# Altium schematic symbol library Connectors.SchLib: 48 symbols
Pins are listed as number, name and electrical type; pins without a type are passive.

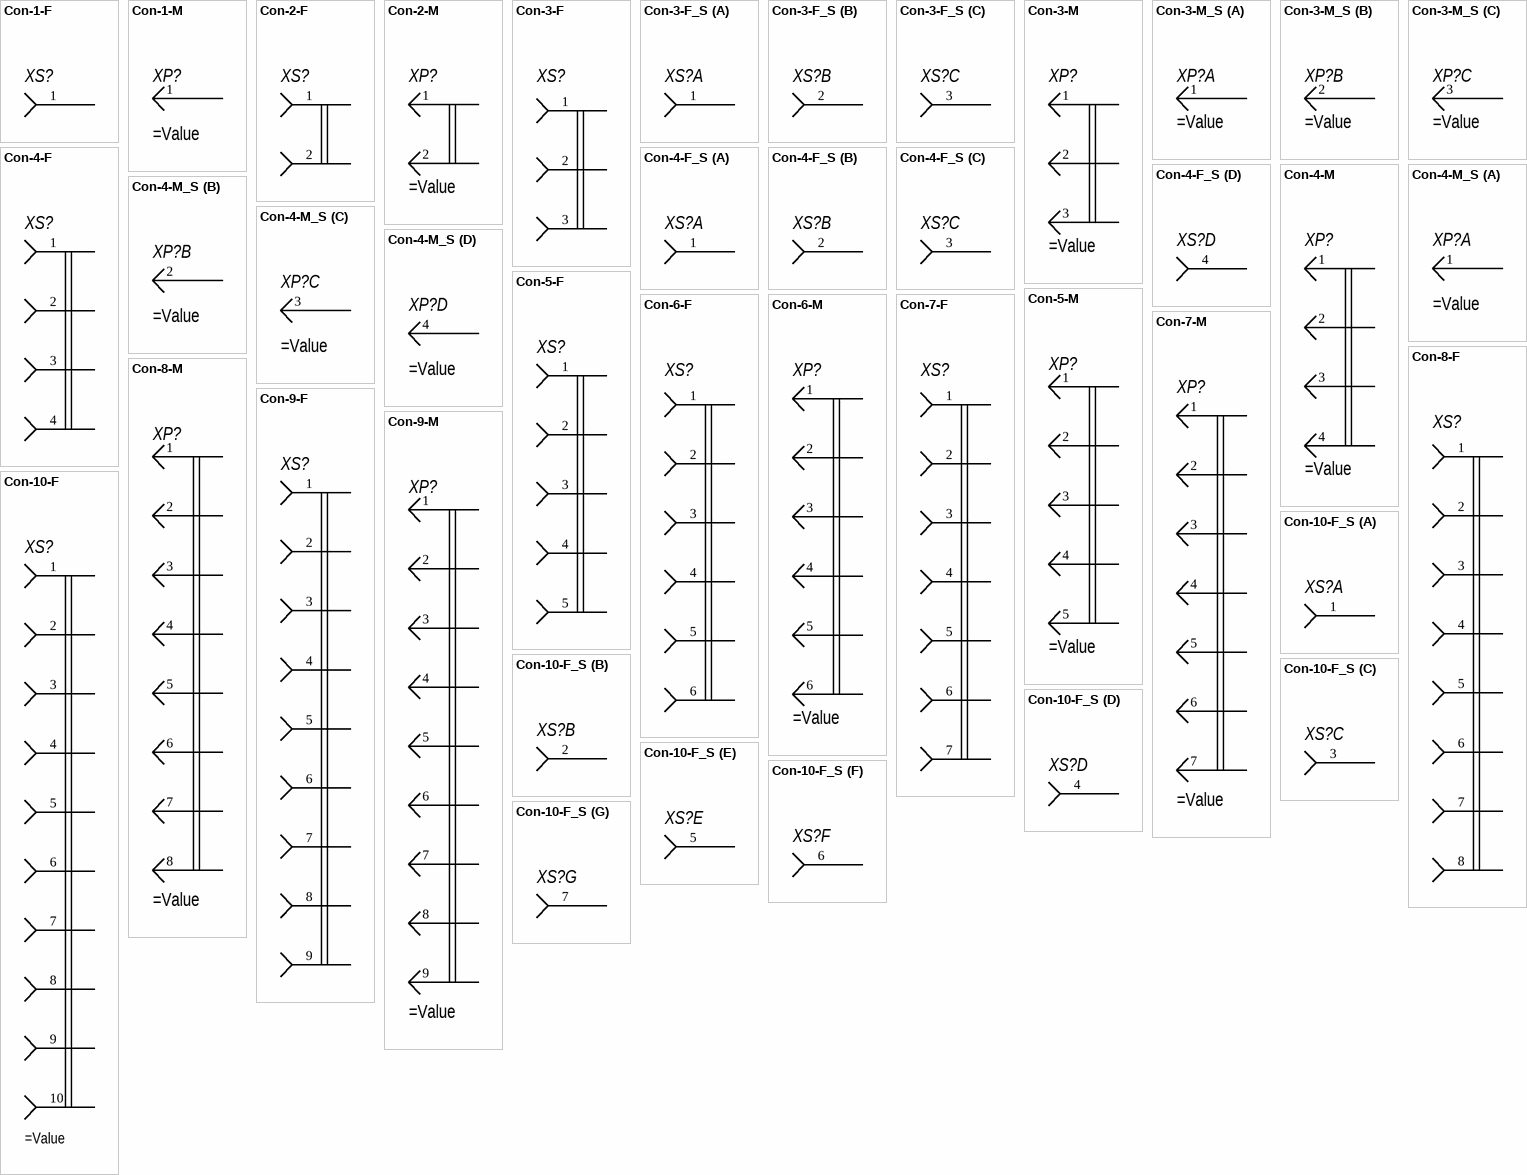
[diagram p0: symbols Con-1-F to Con-10-F_S]

## Con-1-F
designator XS?  (value not drawn)
pins: 1

## Con-1-M
designator XP?
pins: 1

## Con-2-F
designator XS?  (value not drawn)
pins: 1, 2

## Con-2-M
designator XP?
pins: 1, 2

## Con-3-F
designator XS?
pins: 1, 2, 3

## Con-3-F_S
designator XS?  (value not drawn)
part A pins: 1
part B pins: 2
part C pins: 3

## Con-3-M
designator XP?
pins: 1, 2, 3

## Con-3-M_S
designator XP?
part A pins: 1
part B pins: 2
part C pins: 3

## Con-4-F
designator XS?
pins: 1, 2, 3, 4

## Con-4-F_S
designator XS?  (value not drawn)
part A pins: 1
part B pins: 2
part C pins: 3
part D pins: 4

## Con-4-M
designator XP?
pins: 1, 2, 3, 4

## Con-4-M_S
designator XP?
part A pins: 1
part B pins: 2
part C pins: 3
part D pins: 4

## Con-5-F
designator XS?
pins: 1, 2, 3, 4, 5

## Con-5-M
designator XP?
pins: 1, 2, 3, 4, 5

## Con-6-F
designator XS?
pins: 1, 2, 3, 4, 5, 6

## Con-6-M
designator XP?
pins: 1, 2, 3, 4, 5, 6

## Con-7-F
designator XS?
pins: 1, 2, 3, 4, 5, 6, 7

## Con-7-M
designator XP?
pins: 1, 2, 3, 4, 5, 6, 7

## Con-8-F
designator XS?
pins: 1, 2, 3, 4, 5, 6, 7, 8

## Con-8-M
designator XP?
pins: 1, 2, 3, 4, 5, 6, 7, 8

## Con-9-F
designator XS?
pins: 1, 2, 3, 4, 5, 6, 7, 8, 9

## Con-9-M
designator XP?
pins: 1, 2, 3, 4, 5, 6, 7, 8, 9

## Con-10-F
designator XS?
pins: 1, 2, 3, 4, 5, 6, 7, 8, 9, 10

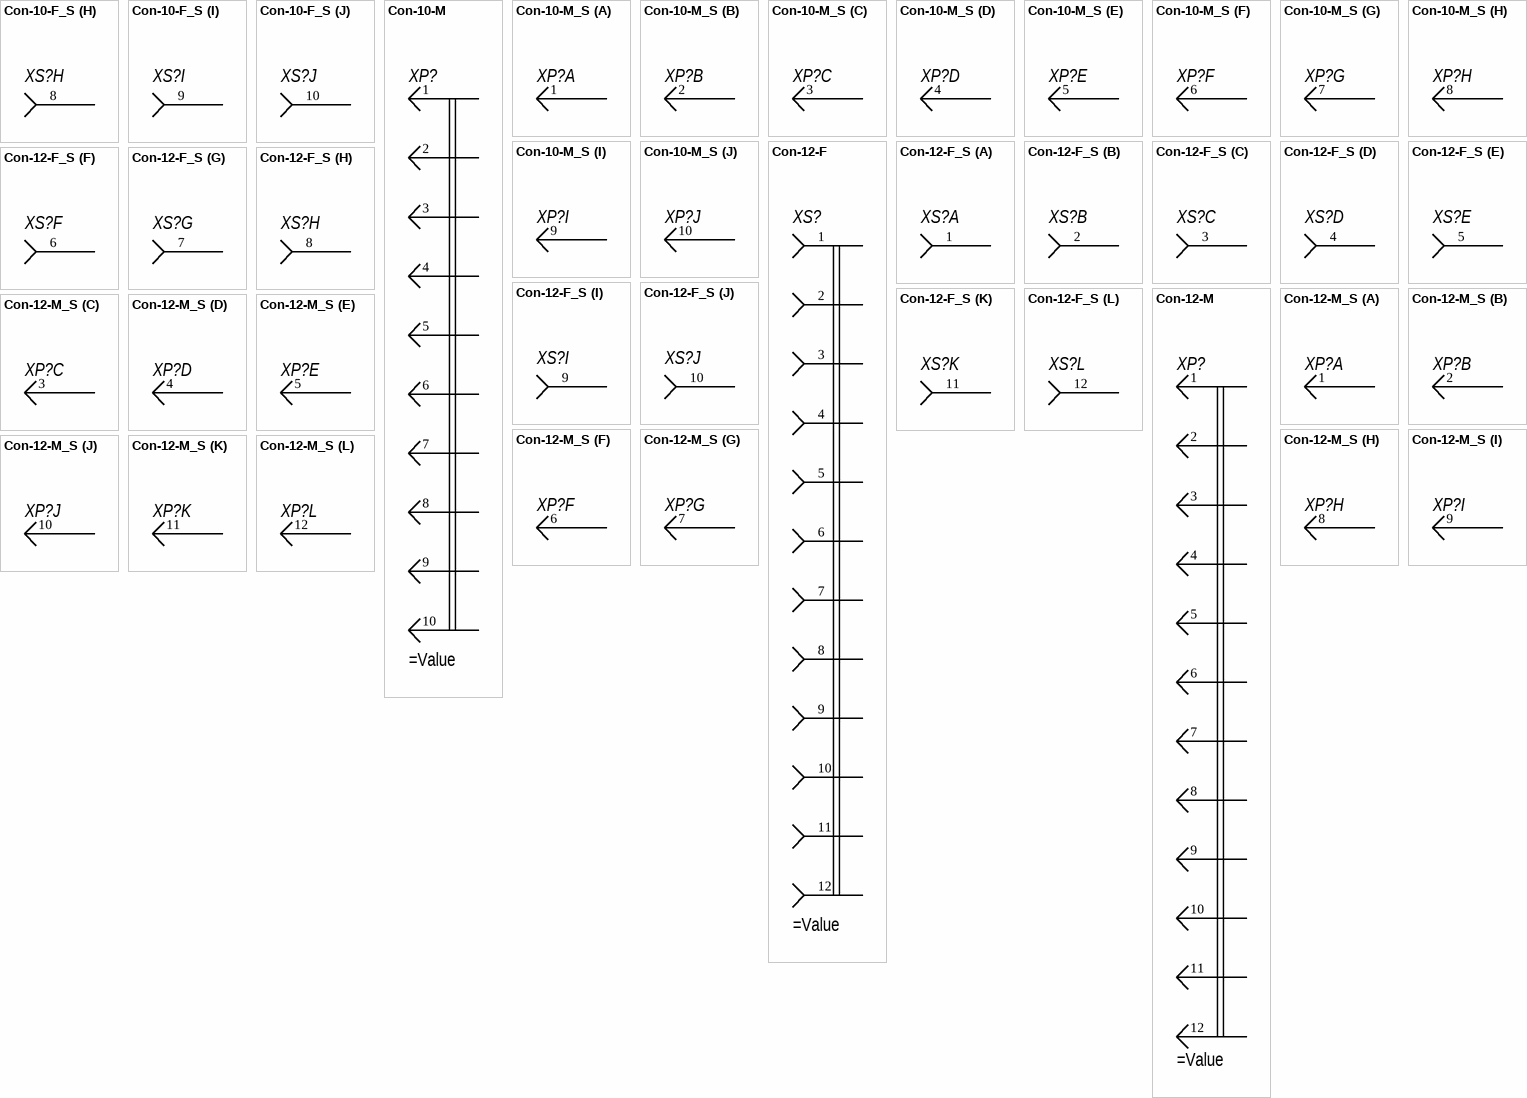
[diagram p1: symbols Con-10-F_S to Con-12-M_S]

## Con-10-F_S
designator XS?  (value not drawn)
part A pins: 1
part B pins: 2
part C pins: 3
part D pins: 4
part E pins: 5
part F pins: 6
part G pins: 7
part H pins: 8
part I pins: 9
part J pins: 10

## Con-10-M
designator XP?
pins: 1, 2, 3, 4, 5, 6, 7, 8, 9, 10

## Con-10-M_S
designator XP?
part A pins: 1
part B pins: 2
part C pins: 3
part D pins: 4
part E pins: 5
part F pins: 6
part G pins: 7
part H pins: 8
part I pins: 9
part J pins: 10

## Con-12-F
designator XS?
pins: 1, 2, 3, 4, 5, 6, 7, 8, 9, 10, 11, 12

## Con-12-F_S
designator XS?  (value not drawn)
part A pins: 1
part B pins: 2
part C pins: 3
part D pins: 4
part E pins: 5
part F pins: 6
part G pins: 7
part H pins: 8
part I pins: 9
part J pins: 10
part K pins: 11
part L pins: 12

## Con-12-M
designator XP?
pins: 1, 2, 3, 4, 5, 6, 7, 8, 9, 10, 11, 12

## Con-12-M_S
designator XP?
part A pins: 1
part B pins: 2
part C pins: 3
part D pins: 4
part E pins: 5
part F pins: 6
part G pins: 7
part H pins: 8
part I pins: 9
part J pins: 10
part K pins: 11
part L pins: 12

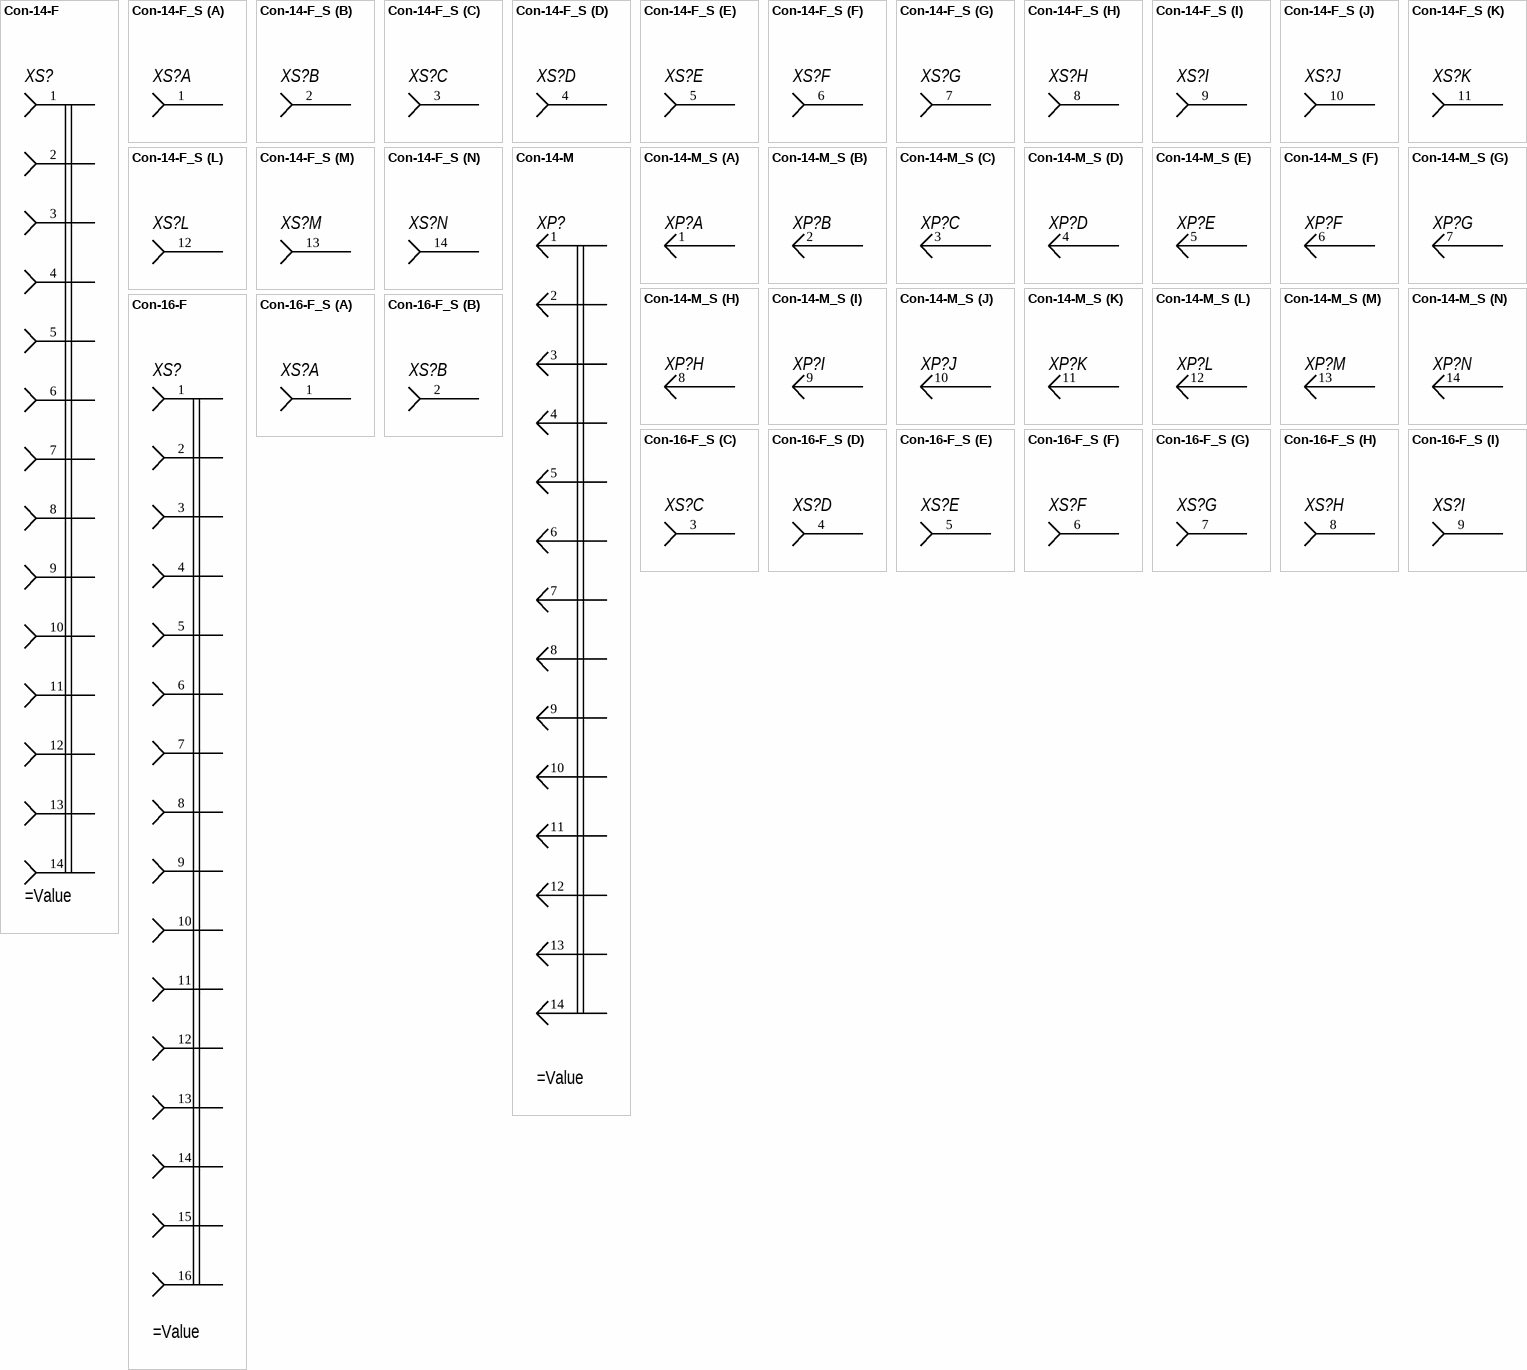
[diagram p2: symbols Con-14-F to Con-16-F_S]

## Con-14-F
designator XS?
pins: 1, 2, 3, 4, 5, 6, 7, 8, 9, 10, 11, 12, 13, 14

## Con-14-F_S
designator XS?  (value not drawn)
part A pins: 1
part B pins: 2
part C pins: 3
part D pins: 4
part E pins: 5
part F pins: 6
part G pins: 7
part H pins: 8
part I pins: 9
part J pins: 10
part K pins: 11
part L pins: 12
part M pins: 13
part N pins: 14

## Con-14-M
designator XP?
pins: 1, 2, 3, 4, 5, 6, 7, 8, 9, 10, 11, 12, 13, 14

## Con-14-M_S
designator XP?
part A pins: 1
part B pins: 2
part C pins: 3
part D pins: 4
part E pins: 5
part F pins: 6
part G pins: 7
part H pins: 8
part I pins: 9
part J pins: 10
part K pins: 11
part L pins: 12
part M pins: 13
part N pins: 14

## Con-16-F
designator XS?
pins: 1, 2, 3, 4, 5, 6, 7, 8, 9, 10, 11, 12, 13, 14, 15, 16

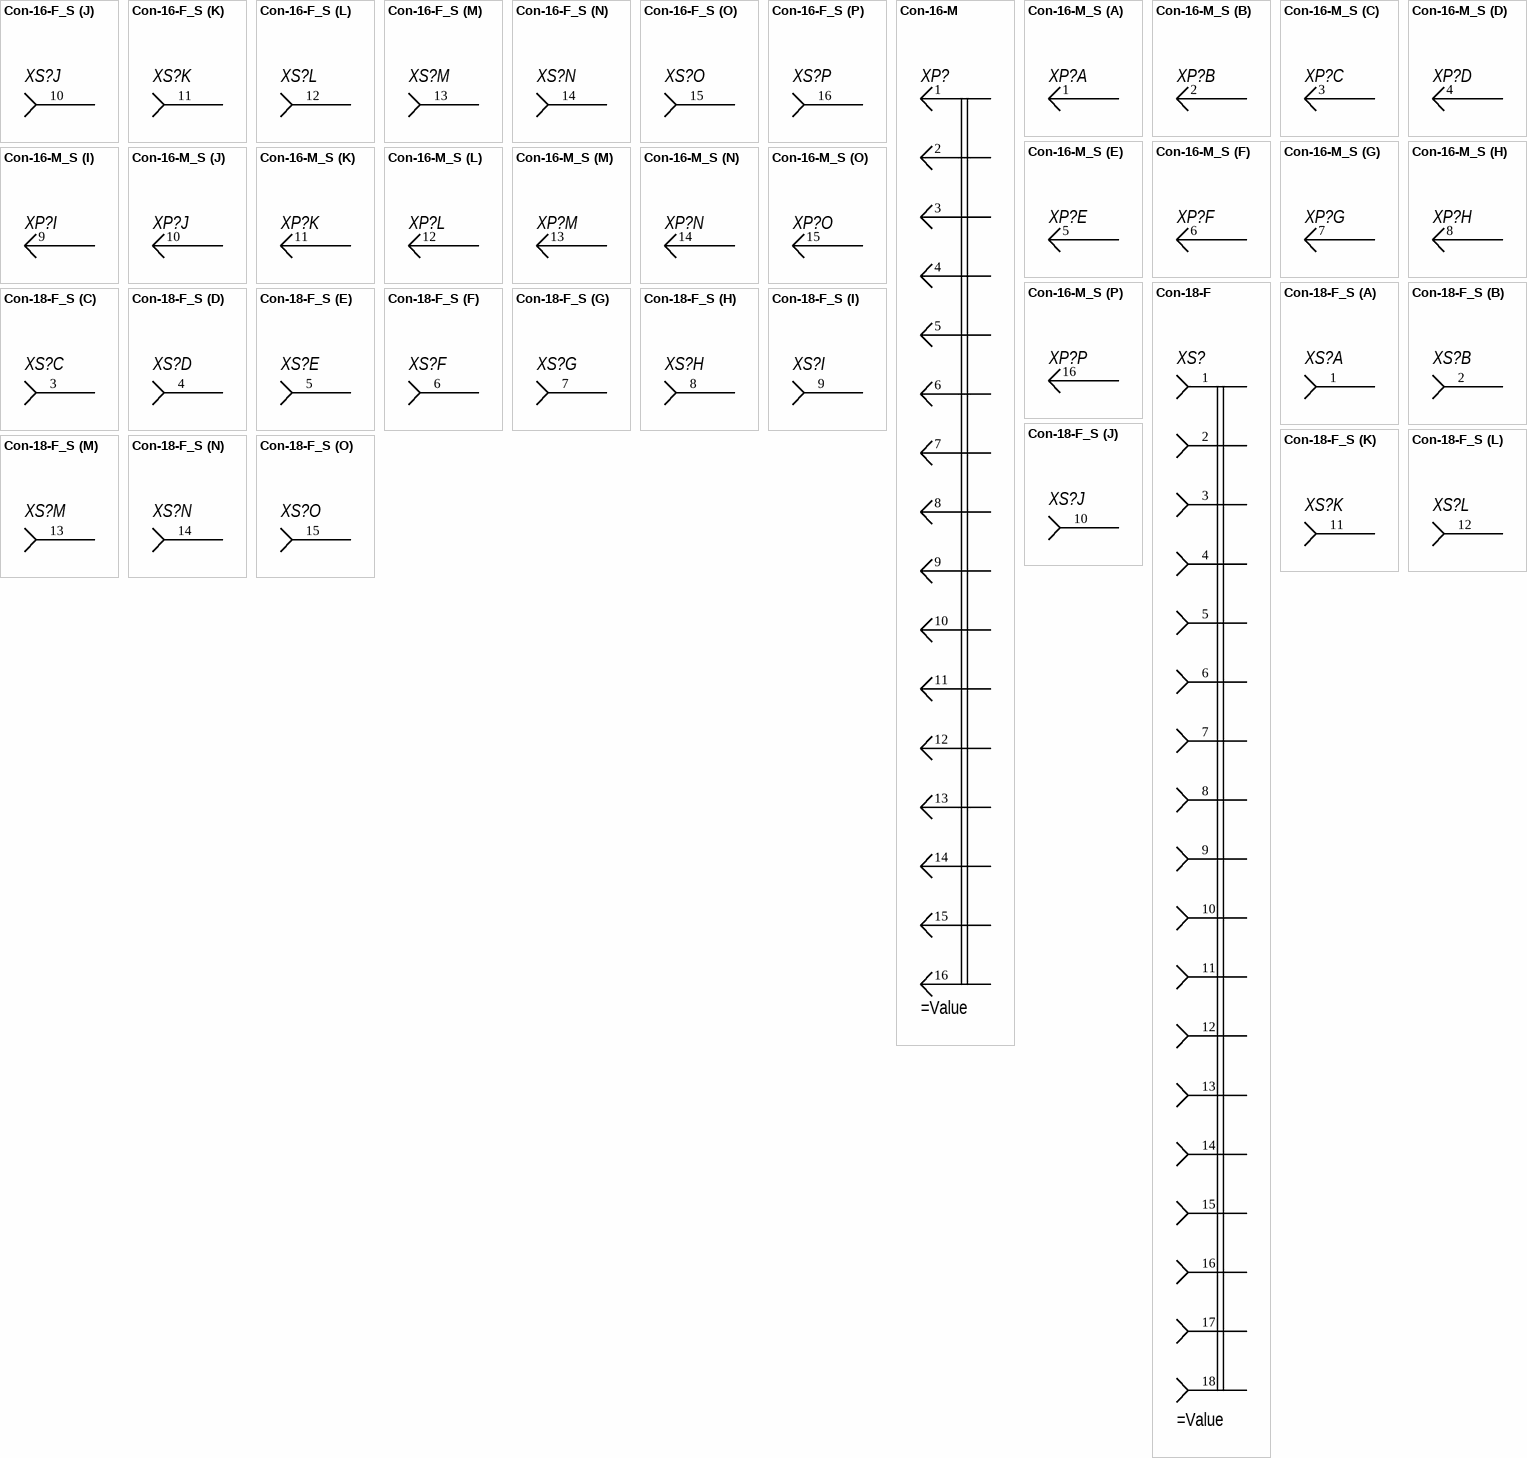
[diagram p3: symbols Con-16-F_S to Con-18-F_S]

## Con-16-F_S
designator XS?  (value not drawn)
part A pins: 1
part B pins: 2
part C pins: 3
part D pins: 4
part E pins: 5
part F pins: 6
part G pins: 7
part H pins: 8
part I pins: 9
part J pins: 10
part K pins: 11
part L pins: 12
part M pins: 13
part N pins: 14
part O pins: 15
part P pins: 16

## Con-16-M
designator XP?
pins: 1, 2, 3, 4, 5, 6, 7, 8, 9, 10, 11, 12, 13, 14, 15, 16

## Con-16-M_S
designator XP?
part A pins: 1
part B pins: 2
part C pins: 3
part D pins: 4
part E pins: 5
part F pins: 6
part G pins: 7
part H pins: 8
part I pins: 9
part J pins: 10
part K pins: 11
part L pins: 12
part M pins: 13
part N pins: 14
part O pins: 15
part P pins: 16

## Con-18-F
designator XS?
pins: 1, 2, 3, 4, 5, 6, 7, 8, 9, 10, 11, 12, 13, 14, 15, 16, 17, 18

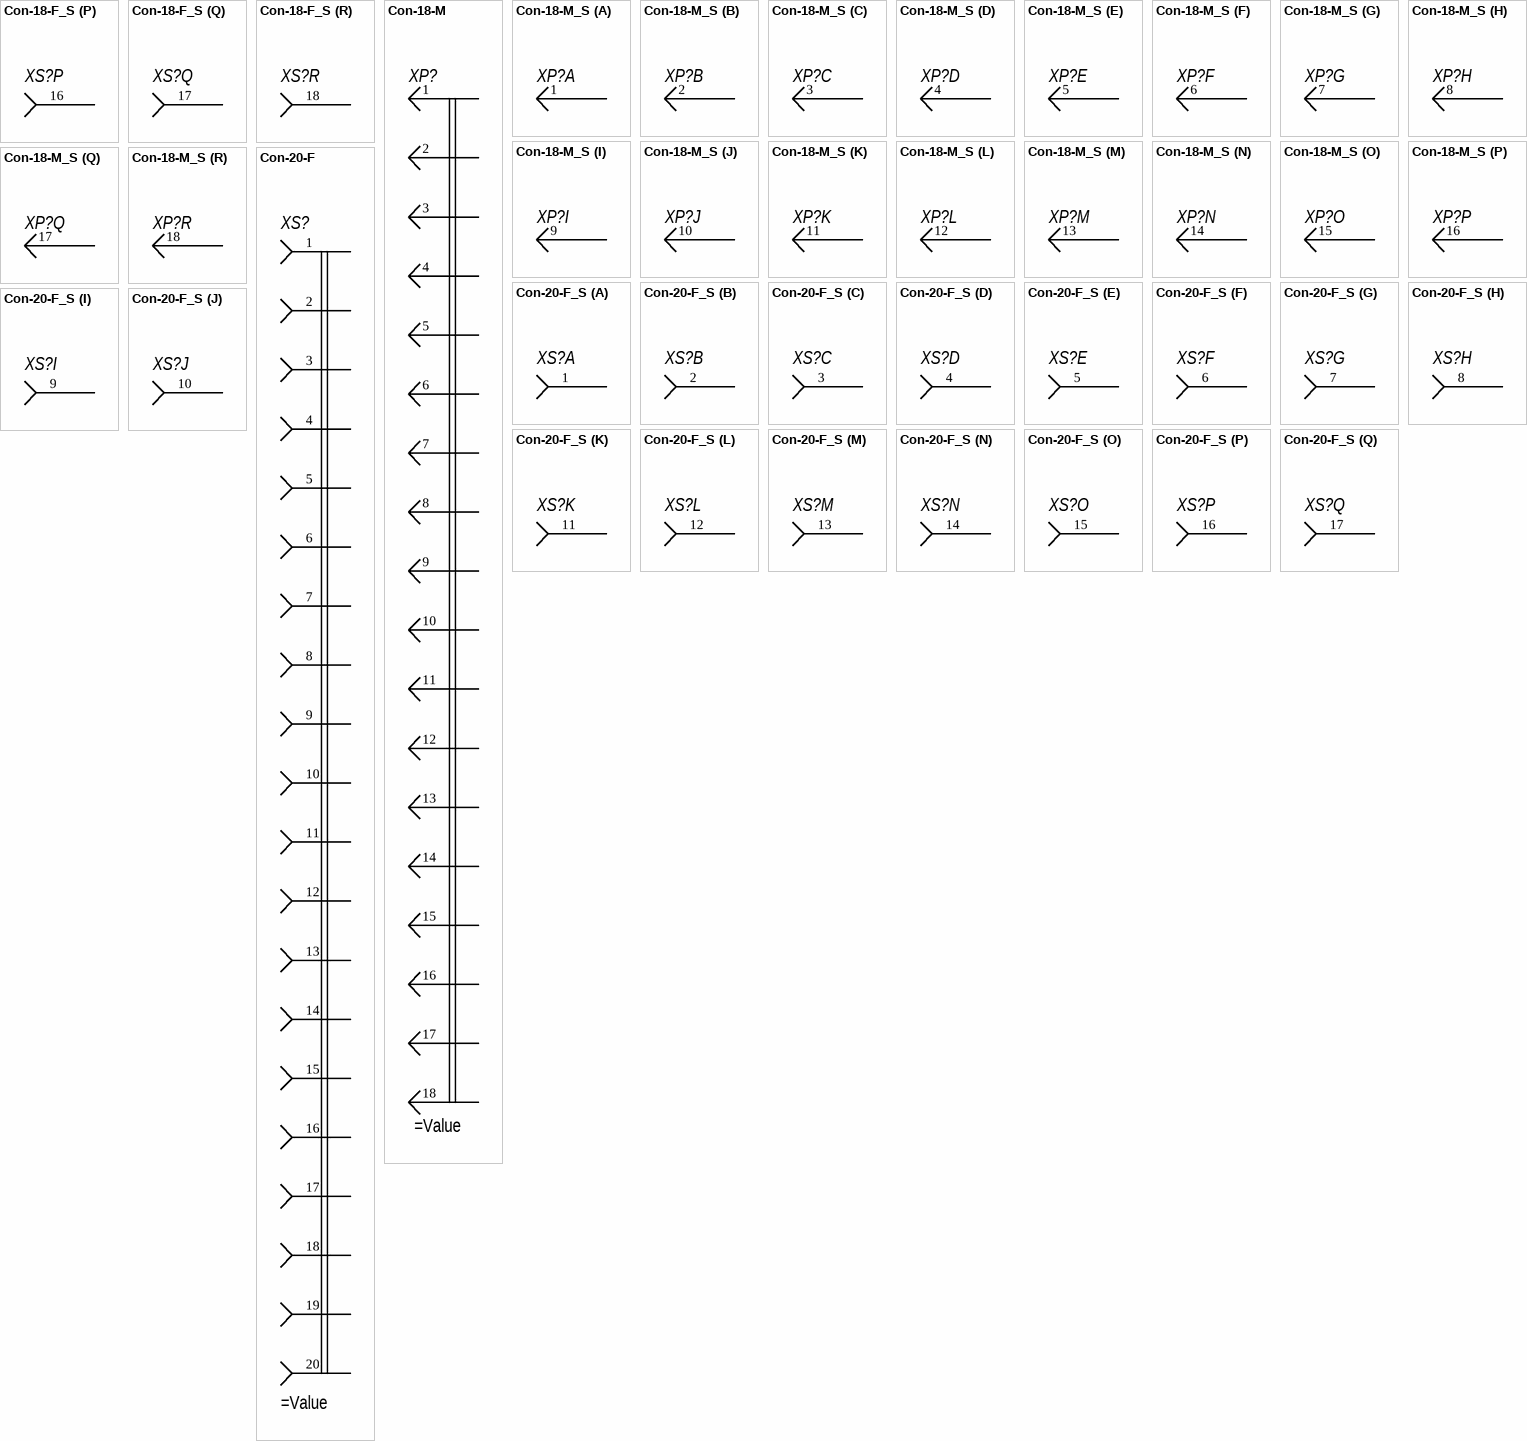
[diagram p4: symbols Con-18-F_S to Con-20-F_S]

## Con-18-F_S
designator XS?  (value not drawn)
part A pins: 1
part B pins: 2
part C pins: 3
part D pins: 4
part E pins: 5
part F pins: 6
part G pins: 7
part H pins: 8
part I pins: 9
part J pins: 10
part K pins: 11
part L pins: 12
part M pins: 13
part N pins: 14
part O pins: 15
part P pins: 16
part Q pins: 17
part R pins: 18

## Con-18-M
designator XP?
pins: 1, 2, 3, 4, 5, 6, 7, 8, 9, 10, 11, 12, 13, 14, 15, 16, 17, 18

## Con-18-M_S
designator XP?
part A pins: 1
part B pins: 2
part C pins: 3
part D pins: 4
part E pins: 5
part F pins: 6
part G pins: 7
part H pins: 8
part I pins: 9
part J pins: 10
part K pins: 11
part L pins: 12
part M pins: 13
part N pins: 14
part O pins: 15
part P pins: 16
part Q pins: 17
part R pins: 18

## Con-20-F
designator XS?
pins: 1, 2, 3, 4, 5, 6, 7, 8, 9, 10, 11, 12, 13, 14, 15, 16, 17, 18, 19, 20

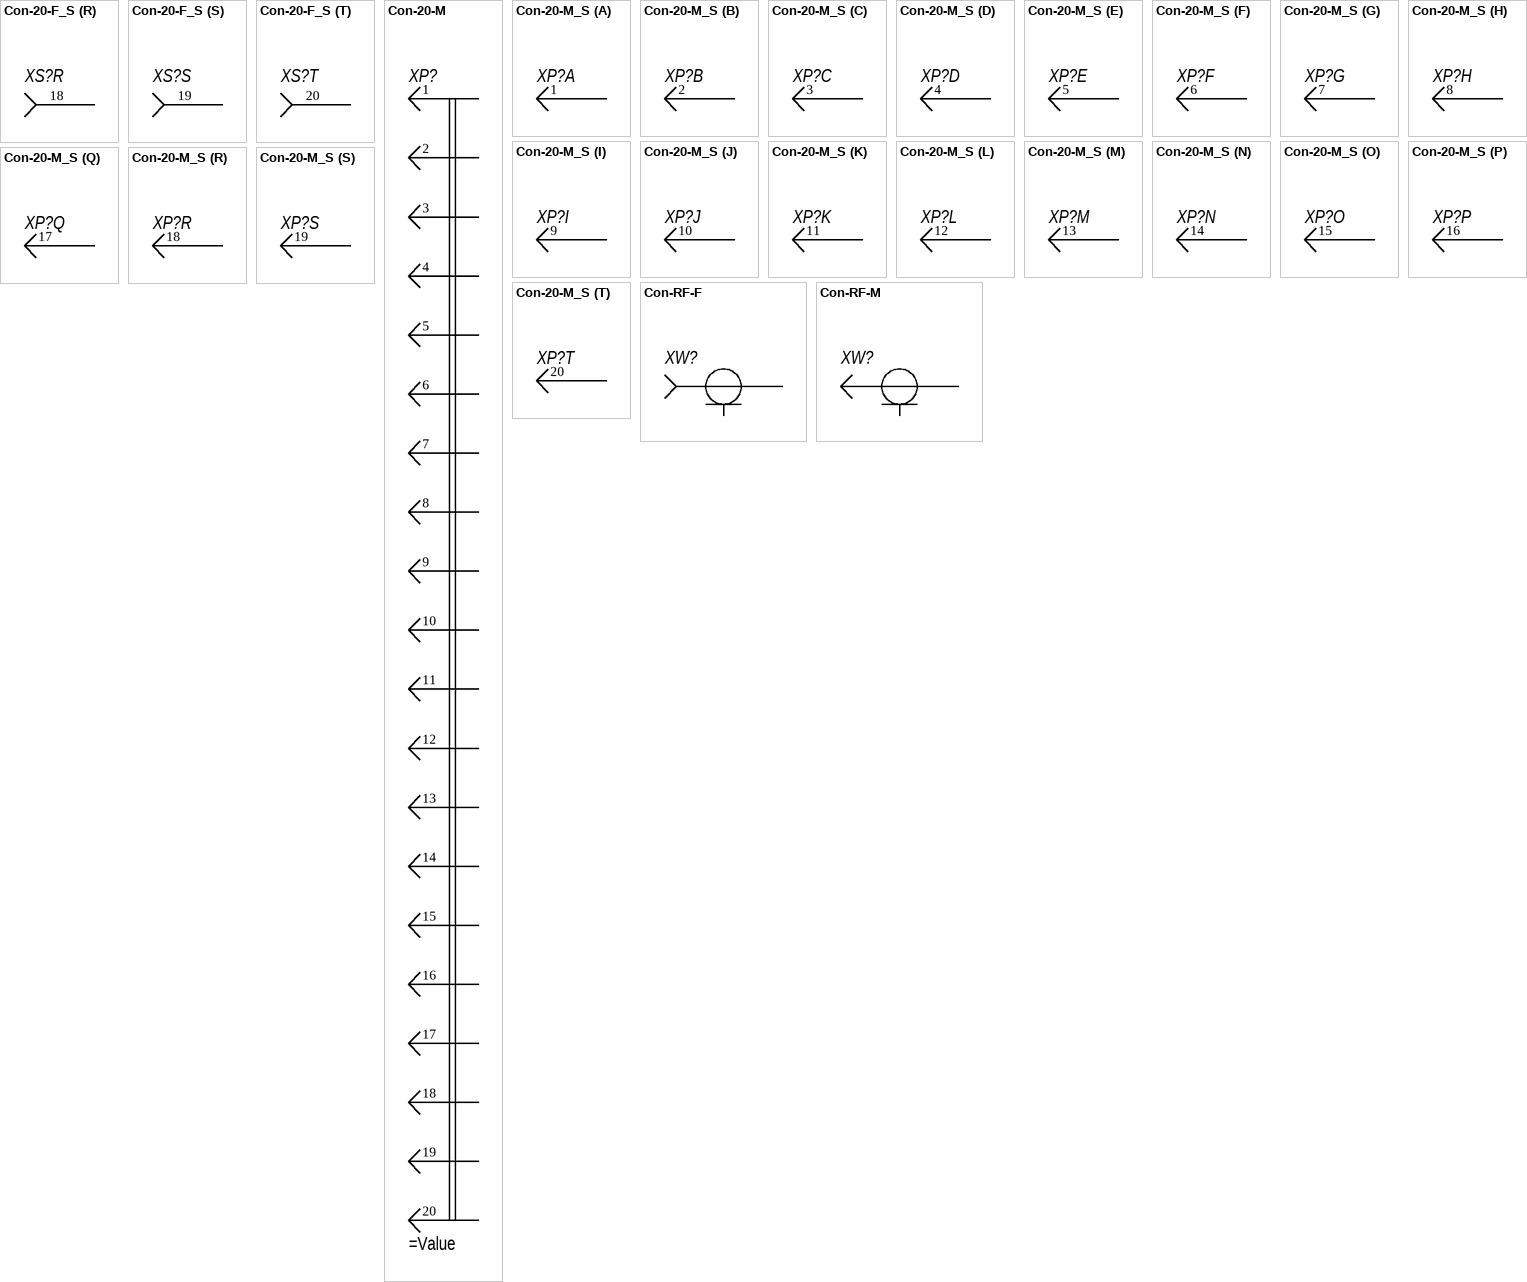
[diagram p5: symbols Con-20-F_S to Con-RF-M]

## Con-20-F_S
designator XS?  (value not drawn)
part A pins: 1
part B pins: 2
part C pins: 3
part D pins: 4
part E pins: 5
part F pins: 6
part G pins: 7
part H pins: 8
part I pins: 9
part J pins: 10
part K pins: 11
part L pins: 12
part M pins: 13
part N pins: 14
part O pins: 15
part P pins: 16
part Q pins: 17
part R pins: 18
part S pins: 19
part T pins: 20

## Con-20-M
designator XP?
pins: 1, 2, 3, 4, 5, 6, 7, 8, 9, 10, 11, 12, 13, 14, 15, 16, 17, 18, 19, 20

## Con-20-M_S
designator XP?
part A pins: 1
part B pins: 2
part C pins: 3
part D pins: 4
part E pins: 5
part F pins: 6
part G pins: 7
part H pins: 8
part I pins: 9
part J pins: 10
part K pins: 11
part L pins: 12
part M pins: 13
part N pins: 14
part O pins: 15
part P pins: 16
part Q pins: 17
part R pins: 18
part S pins: 19
part T pins: 20

## Con-RF-F
designator XW?  (value not drawn)
pins: 1, 2

## Con-RF-M
designator XW?  (value not drawn)
pins: 1, 2